# Altium footprint library AMS1117_3.3.PcbLib: 1 footprints
Each footprint in its own frame and in the unit in brackets; x right, y up, seen from the top. Pads: shape width x height; smd on the part's side, far side on the other; paste and mask are expansions set on the pad; w line width, h text height; cw(c..) or ccw(c..) is an arc to the next point about the centre after c.
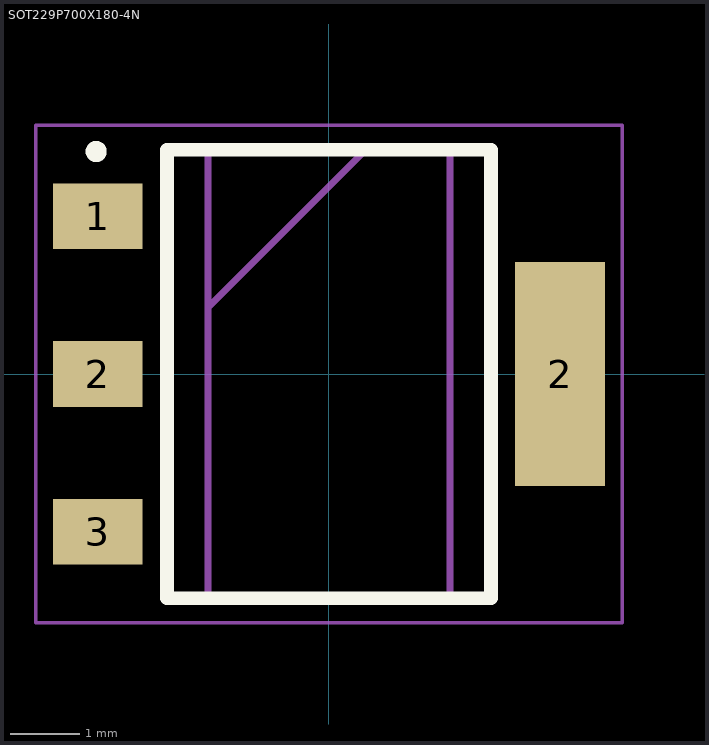
[diagram p0: the footprint, top view; thin cyan lines are the x and y axes]

## SOT229P700X180-4N [mm]
pads (4):
  rect 1.3x0.95 smd: 1(-3.35,2.29) 2(-3.35,0) 3(-3.35,-2.29)
  rect 1.3x3.25 smd: 2(3.35,0)
Top Overlay:
  circle w0.254: c-3.375,3.225 r0.025
  lines w0.2: -2.35,-3.252 -2.35,3.252 2.35,3.252 2.35,-3.252 -2.35,-3.252
Mechanical 13:
  lines w0.1: -1.752,0.962 0.538,3.252 ; -1.752,-3.252 -1.752,3.252 1.752,3.252 1.752,-3.252 -1.752,-3.252
Mechanical 15:
  lines w0.05: -4.25,-3.605 -4.25,3.605 4.25,3.605 4.25,-3.605 -4.25,-3.605
3D body "AMS1117.STEP": height 1.84, standoff -0.03, extent -3.7,-3.202 3.3,3.303